# EAGLE library part SAMACSYS_PARTS_TB6612FNG,C,8,EL (library Motor.Fader.all.Parts)
otor / Motion / Ignition Controllers & Drivers Brush Motor Driver IC Source: Datasheet <http://toshiba.semicon-storage.com/info/docget.jsp?did=10660&prodName=TB6612FNG>
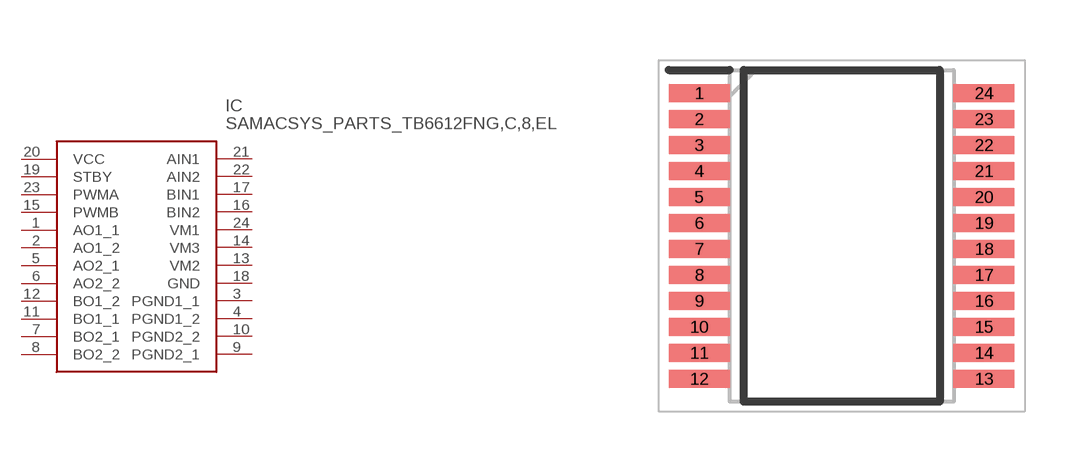
[diagram p2: symbol with the pads of SAMACSYS_PARTS_SOP65P760X160-24N; footprint SAMACSYS_PARTS_SOP65P760X160-24N]

Designator prefix IC

## SAMACSYS_PARTS_TB6612FNG,C,8,EL (DESCRIPTION: otor / Motion / Ignition Controllers & Drivers Brush Motor Driver IC; HEIGHT: 1.6mm; MANUFACTURER_NAME: Toshiba; MANUFACTURER_PART_NUMBER: TB6612FNG,C,8,EL; MOUSER_PART_NUMBER: 757-TB6612FNGC8EL; MOUSER_PRICE-STOCK: https://www.mouser.co.uk/ProductDetail/Toshiba/TB6612FNGC8EL?qs=rsevcuukUAy2UalRuv4E%2FQ%3D%3D)  [SAMACSYS_PARTS_SOP65P760X160-24N]
1  AO1_1
2  AO1_2
3  PGND1_1
4  PGND1_2
5  AO2_1
6  AO2_2
7  BO2_1
8  BO2_2
9  PGND2_1
10  PGND2_2
11  BO1_1
12  BO1_2
13  VM2
14  VM3
15  PWMB
16  BIN2
17  BIN1
18  GND
19  STBY
20  VCC
21  AIN1
22  AIN2
23  PWMA
24  VM1

## Footprint SAMACSYS_PARTS_SOP65P760X160-24N (pad centres in mm)
TB6575FNG,C,8,EL-1
smd 1.525 x 0.45: 1 -3.562,3.575; 2 -3.562,2.925; 3 -3.562,2.275; 4 -3.562,1.625; 5 -3.562,0.975; 6 -3.562,0.325; 7 -3.562,-0.325; 8 -3.562,-0.975; 9 -3.562,-1.625; 10 -3.562,-2.275; 11 -3.562,-2.925; 12 -3.562,-3.575; 13 3.562,-3.575; 14 3.562,-2.925; 15 3.562,-2.275; 16 3.562,-1.625; 17 3.562,-0.975; 18 3.562,-0.325; 19 3.562,0.325; 20 3.562,0.975; 21 3.562,1.625; 22 3.562,2.275; 23 3.562,2.925; 24 3.562,3.575